# Altium integrated library Linear Technology Power Management Power Control.IntLib: 661 symbols (part 16 of 43)
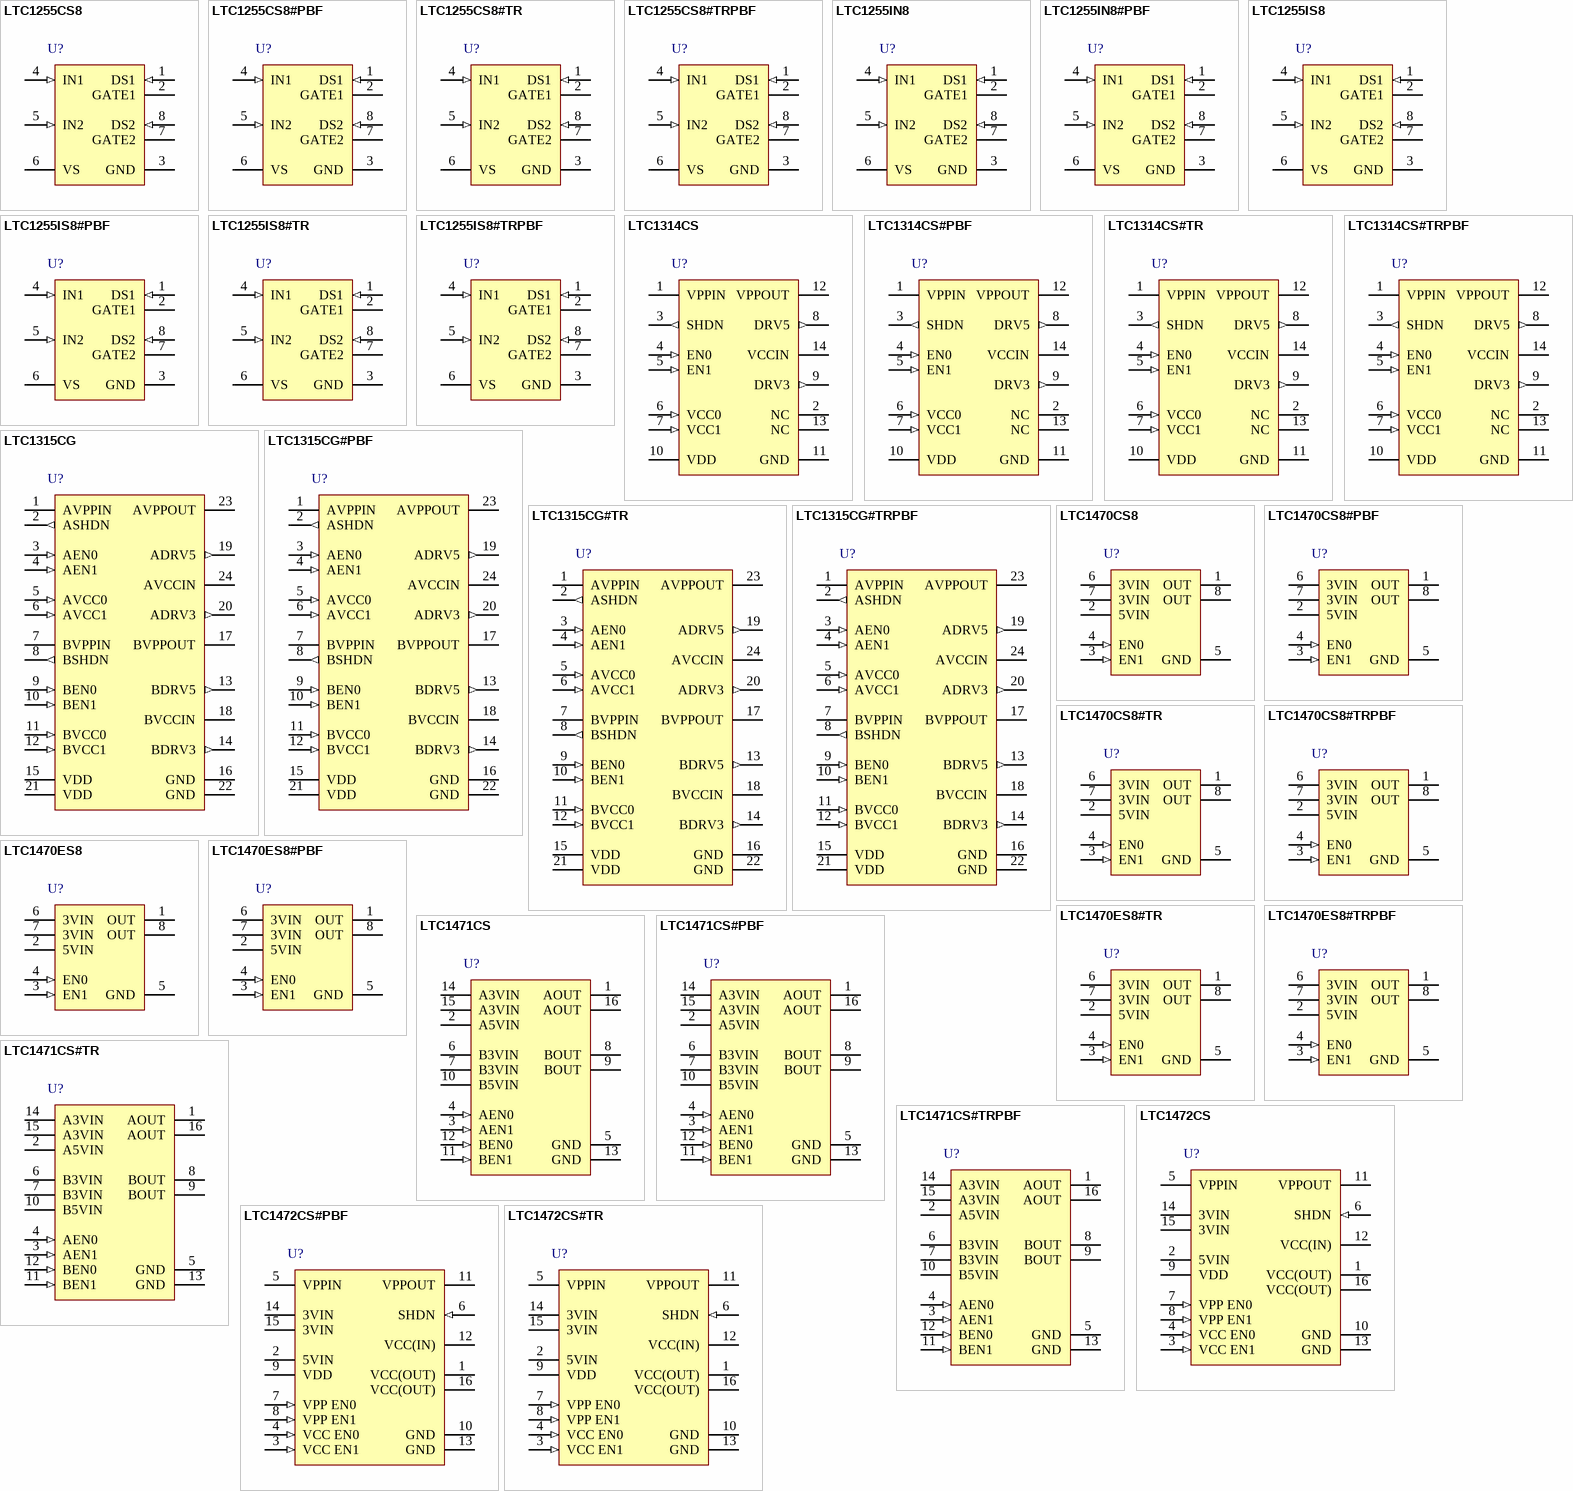
[diagram p34: symbols LTC1255CS8 to LTC1472CS#TR]

## LTC1315CG#TR
designator U?
Internal Drivers for Vcc MOSFETs, 4.5 to 5.5 V Vin, 24-pin SOP (G-24), 0 to 70 degC, Tape and Reel; Manufacturer: Linear Technology; PartNumber: LTC1315CG#TR; PackageVersion: Jun-10; PackageReference: G-24; PackageDescription: 24-Pin Plastic SSOP, Body 8.2 x 5.3 mm, Pitch 0.65 mm; Supplier 1: Digi-Key; Supplier Part Number 1: LTC1315CG#TR-ND; Packing: Tape and Reel; RoHS: FALSE; Mounting Technology: Surface Mount; ComponentLink1Description: Manufacturer URL; ComponentLink1URL: http://www.linear.com/; ComponentLink2Description: Datasheet; ComponentLink2URL: http://cds.linear.com/docs/en/datasheet/lt1314.pdf; ComponentLink3Description: Package Specification; ComponentLink3URL: http://cds.linear.com/docs/en/packaging/SSOP_24_05-08-1640.pdf
footprint LT-G-24_N (SOP, 24-Leads, Body 8.5x5.6mm, Pitch 0.65mm, IPC Medium Density)
footprint LT-G-24_L (SOP, 24-Leads, Body 8.5x5.6mm, Pitch 0.65mm, IPC High Density)
footprint LT-G-24_M (SOP, 24-Leads, Body 8.5x5.6mm, Pitch 0.65mm, IPC Low Density)
pins: 1 AVPPIN (power) "12 V Power Input.", 2 ASHDN (out) "Shutdown Output. When the output is high, the external 12 V regulator can be shut down to conserve power consumption.", 3 AEN0 (in) "Logic input that control the voltage output on VPP OUT . The input thresholds are compatible with TTL / CMOS level. Refer to the Truth Table.", 4 AEN1 (in) "Logic input that control the voltage output on VPP OUT . The input thresholds are compatible with TTL / CMOS level. Refer to the Truth Table.", 5 AVCC0 (in) "Logic input that control the state of the MOSFET gate driver DRV3. ESD protection device limits input excursions to 0.6 V below ground.", 6 AVCC1 (in) "Logic input that control the state of the MOSFET gate driver DRV5. ESD protection device limits input excursions to 0.6 V below ground.", 7 BVPPIN (power) "12 V Power Input.", 8 BSHDN (out) "Shutdown Output. When the output is high, the external 12 V regulator can be shut down to conserve power consumption.", 9 BEN0 (in) "Logic input that control the voltage output on VPP OUT . The input thresholds are compatible with TTL / CMOS level. Refer to the Truth Table.", 10 BEN1 (in) "Logic input that control the voltage output on VPP OUT . The input thresholds are compatible with TTL / CMOS level. Refer to the Truth Table.", 11 BVCC0 (in) "Logic input that control the state of the MOSFET gate driver DRV3. ESD protection device limits input excursions to 0.6 V below ground.", 12 BVCC1 (in) "Logic input that control the state of the MOSFET gate driver DRV5. ESD protection device limits input excursions to 0.6 V below ground.", 13 BDRV5 (out) "Gate driver output that control the external MOSFETs that switch the VCC pin of card slot to Hi-Z, 3.3 V, or 5 V.", 14 BDRV3 (out) "Gate driver output that control the external MOSFETs that switch the VCC pin of card slot to Hi-Z, 3.3 V, or 5 V.", 15 VDD (power) "Positive Supply, 4.5 V <= VDD <= 5.5 V. This pin supply the power to the control logic and the charge pumps and must be continuously powered.", 16 GND (power) "Ground Connection.", 17 BVPPOUT (power) "Switched output that provide 0 V, 3.3 V, 5 V, 12 V, or Hi-Z to the VPP pin of the card slot. Refer to the Truth Table.", 18 BVCCIN (power) "5 V or 3.3 V Power Input.", 19 ADRV5 (out) "Gate driver output that control the external MOSFETs that switch the VCC pin of card slot to Hi-Z, 3.3 V, or 5 V.", 20 ADRV3 (out) "Gate driver output that control the external MOSFETs that switch the VCC pin of card slot to Hi-Z, 3.3 V, or 5 V.", 21 VDD (power) "Positive Supply, 4.5 V <= V DD <= 5.5 V. These pins supply the power to the control logic and the charge pumps and must be continuously powered.", 22 GND (power) "Ground Connection.", 23 AVPPOUT (power) "Switched output that provide 0 V, 3.3 V, 5 V, 12 V, or Hi-Z to the VPP pin of the card slot. Refer to the Truth Table.", 24 AVCCIN (power) "5 V or 3.3 V Power Input."

## LTC1315CG#TRPBF
designator U?
Internal Drivers for Vcc MOSFETs, 4.5 to 5.5 V Vin, 24-pin SOP (G-24), 0 to 70 degC, Pb-Free, Tape and Reel; Manufacturer: Linear Technology; PartNumber: LTC1315CG#TRPBF; PackageVersion: Jun-10; PackageReference: G-24; PackageDescription: 24-Pin Plastic SSOP, Body 8.2 x 5.3 mm, Pitch 0.65 mm; Supplier 1: Digi-Key; Supplier Part Number 1: LTC1315CG#TRPBF-ND; Packing: Tape and Reel; RoHS: TRUE; Mounting Technology: Surface Mount; ComponentLink1Description: Manufacturer URL; ComponentLink1URL: http://www.linear.com/; ComponentLink2Description: Datasheet; ComponentLink2URL: http://cds.linear.com/docs/en/datasheet/lt1314.pdf; ComponentLink3Description: Package Specification; ComponentLink3URL: http://cds.linear.com/docs/en/packaging/SSOP_24_05-08-1640.pdf
footprint LT-G-24_N (SOP, 24-Leads, Body 8.5x5.6mm, Pitch 0.65mm, IPC Medium Density)
footprint LT-G-24_L (SOP, 24-Leads, Body 8.5x5.6mm, Pitch 0.65mm, IPC High Density)
footprint LT-G-24_M (SOP, 24-Leads, Body 8.5x5.6mm, Pitch 0.65mm, IPC Low Density)
pins: 1 AVPPIN (power) "12 V Power Input.", 2 ASHDN (out) "Shutdown Output. When the output is high, the external 12 V regulator can be shut down to conserve power consumption.", 3 AEN0 (in) "Logic input that control the voltage output on VPP OUT . The input thresholds are compatible with TTL / CMOS level. Refer to the Truth Table.", 4 AEN1 (in) "Logic input that control the voltage output on VPP OUT . The input thresholds are compatible with TTL / CMOS level. Refer to the Truth Table.", 5 AVCC0 (in) "Logic input that control the state of the MOSFET gate driver DRV3. ESD protection device limits input excursions to 0.6 V below ground.", 6 AVCC1 (in) "Logic input that control the state of the MOSFET gate driver DRV5. ESD protection device limits input excursions to 0.6 V below ground.", 7 BVPPIN (power) "12 V Power Input.", 8 BSHDN (out) "Shutdown Output. When the output is high, the external 12 V regulator can be shut down to conserve power consumption.", 9 BEN0 (in) "Logic input that control the voltage output on VPP OUT . The input thresholds are compatible with TTL / CMOS level. Refer to the Truth Table.", 10 BEN1 (in) "Logic input that control the voltage output on VPP OUT . The input thresholds are compatible with TTL / CMOS level. Refer to the Truth Table.", 11 BVCC0 (in) "Logic input that control the state of the MOSFET gate driver DRV3. ESD protection device limits input excursions to 0.6 V below ground.", 12 BVCC1 (in) "Logic input that control the state of the MOSFET gate driver DRV5. ESD protection device limits input excursions to 0.6 V below ground.", 13 BDRV5 (out) "Gate driver output that control the external MOSFETs that switch the VCC pin of card slot to Hi-Z, 3.3 V, or 5 V.", 14 BDRV3 (out) "Gate driver output that control the external MOSFETs that switch the VCC pin of card slot to Hi-Z, 3.3 V, or 5 V.", 15 VDD (power) "Positive Supply, 4.5 V <= VDD <= 5.5 V. This pin supply the power to the control logic and the charge pumps and must be continuously powered.", 16 GND (power) "Ground Connection.", 17 BVPPOUT (power) "Switched output that provide 0 V, 3.3 V, 5 V, 12 V, or Hi-Z to the VPP pin of the card slot. Refer to the Truth Table.", 18 BVCCIN (power) "5 V or 3.3 V Power Input.", 19 ADRV5 (out) "Gate driver output that control the external MOSFETs that switch the VCC pin of card slot to Hi-Z, 3.3 V, or 5 V.", 20 ADRV3 (out) "Gate driver output that control the external MOSFETs that switch the VCC pin of card slot to Hi-Z, 3.3 V, or 5 V.", 21 VDD (power) "Positive Supply, 4.5 V <= V DD <= 5.5 V. These pins supply the power to the control logic and the charge pumps and must be continuously powered.", 22 GND (power) "Ground Connection.", 23 AVPPOUT (power) "Switched output that provide 0 V, 3.3 V, 5 V, 12 V, or Hi-Z to the VPP pin of the card slot. Refer to the Truth Table.", 24 AVCCIN (power) "5 V or 3.3 V Power Input."

## LTC1470CS8
designator U?
Fully Integrated VCC Switch with SafeSlot Protection, 2.7 to 5.25 V Vin, 8-pin SOIC (S8-8), 0 to 70 degC; Manufacturer: Linear Technology; PartNumber: LTC1470CS8; DatasheetVersion: Rev. A; PackageVersion: Rev. G, 03/2012; PackageReference: S8-8; PackageDescription: 8-Pin Plastic Small Outline (Narrow .150 Inch), Body 4.9 x 3.9 mm, Pitch 1.27 mm; Supplier 1: Digi-Key; Supplier Part Number 1: LTC1470CS8-ND; RoHS: FALSE; Mounting Technology: Surface Mount; ComponentLink1Description: Manufacturer URL; ComponentLink1URL: http://www.linear.com/; ComponentLink2Description: Datasheet; ComponentLink2URL: http://cds.linear.com/docs/en/datasheet/14701fa.pdf; ComponentLink3Description: Package Specification; ComponentLink3URL: http://cds.linear.com/docs/en/packaging/05081610_G_SO8.pdf
footprint LT-S8-8_N (SOIC, 8-Leads, Body 5x4mm, Pitch 1.27mm, IPC Medium Density)
footprint LT-S8-8_L (SOIC, 8-Leads, Body 5x4mm, Pitch 1.27mm, IPC High Density)
footprint LT-S8-8_M (SOIC, 8-Leads, Body 5x4mm, Pitch 1.27mm, IPC Low Density)
pins: 1 OUT (power) "Output Pins. The outputs of the LTC1470 are switched between three operating states: OFF, 3.3V and 5V. These pins are protected against accidental short circuits to ground by SafeSlot current limit circuitry which protects (See Datasheet)", 2 5VIN (power) "5V Input Supply Pin. The 5VIN supply pin serves two purposes. The first purpose is as the power supply input for the 5V NMOS switch. The second purpose is to provide power for the input, gate drive, and protection circuitry (See Datasheet)", 3 EN1 (in) "Enable Inputs. The two VCC Enable inputs are designed to interface directly with industry standard PCMCIA controllers and are high impedance CMOS gates with ESD protection diodes to ground, and should not be forced above (See Datasheet)", 4 EN0 (in) "Enable Inputs. The two VCC Enable inputs are designed to interface directly with industry standard PCMCIA controllers and are high impedance CMOS gates with ESD protection diodes to ground, and should not be forced above (See Datasheet)", 5 GND (power) "Ground Connection.", 6 3VIN (power) "3V Input Supply Pins. The 3VIN supply pins serve as the power supply input for the 3.3V switches. These pins do not provide any power to the internal control circuitry and therefore do not consume any power when unloaded or (See Datasheet)", 7 3VIN (power) "3V Input Supply Pins. The 3VIN supply pins serve as the power supply input for the 3.3V switches. These pins do not provide any power to the internal control circuitry and therefore do not consume any power when unloaded or (See Datasheet)", 8 OUT (power) "Output Pins. The outputs of the LTC1470 are switched between three operating states: OFF, 3.3V and 5V. These pins are protected against accidental short circuits to ground by SafeSlot current limit circuitry which protects (See Datasheet)"

## LTC1470CS8#PBF
designator U?
Fully Integrated VCC Switch with SafeSlot Protection, 2.7 to 5.25 V Vin, 8-pin SOIC (S8-8), 0 to 70 degC, Pb-Free; Manufacturer: Linear Technology; PartNumber: LTC1470CS8#PBF; DatasheetVersion: Rev. A; PackageVersion: Rev. G, 03/2012; PackageReference: S8-8; PackageDescription: 8-Pin Plastic Small Outline (Narrow .150 Inch), Body 4.9 x 3.9 mm, Pitch 1.27 mm; Supplier 1: Digi-Key; Supplier Part Number 1: LTC1470CS8#PBF-ND; Supplier 2: Farnell; Supplier Part Number 2: 1273513; Supplier 3: Newark; Supplier Part Number 3: 56M1445; RoHS: TRUE; Mounting Technology: Surface Mount; ComponentLink1Description: Manufacturer URL; ComponentLink1URL: http://www.linear.com/; ComponentLink2Description: Datasheet; ComponentLink2URL: http://cds.linear.com/docs/en/datasheet/14701fa.pdf; ComponentLink3Description: Package Specification; ComponentLink3URL: http://cds.linear.com/docs/en/packaging/05081610_G_SO8.pdf
footprint LT-S8-8_N (SOIC, 8-Leads, Body 5x4mm, Pitch 1.27mm, IPC Medium Density)
footprint LT-S8-8_L (SOIC, 8-Leads, Body 5x4mm, Pitch 1.27mm, IPC High Density)
footprint LT-S8-8_M (SOIC, 8-Leads, Body 5x4mm, Pitch 1.27mm, IPC Low Density)
pins: 1 OUT (power) "Output Pins. The outputs of the LTC1470 are switched between three operating states: OFF, 3.3V and 5V. These pins are protected against accidental short circuits to ground by SafeSlot current limit circuitry which protects (See Datasheet)", 2 5VIN (power) "5V Input Supply Pin. The 5VIN supply pin serves two purposes. The first purpose is as the power supply input for the 5V NMOS switch. The second purpose is to provide power for the input, gate drive, and protection circuitry (See Datasheet)", 3 EN1 (in) "Enable Inputs. The two VCC Enable inputs are designed to interface directly with industry standard PCMCIA controllers and are high impedance CMOS gates with ESD protection diodes to ground, and should not be forced above (See Datasheet)", 4 EN0 (in) "Enable Inputs. The two VCC Enable inputs are designed to interface directly with industry standard PCMCIA controllers and are high impedance CMOS gates with ESD protection diodes to ground, and should not be forced above (See Datasheet)", 5 GND (power) "Ground Connection.", 6 3VIN (power) "3V Input Supply Pins. The 3VIN supply pins serve as the power supply input for the 3.3V switches. These pins do not provide any power to the internal control circuitry and therefore do not consume any power when unloaded or (See Datasheet)", 7 3VIN (power) "3V Input Supply Pins. The 3VIN supply pins serve as the power supply input for the 3.3V switches. These pins do not provide any power to the internal control circuitry and therefore do not consume any power when unloaded or (See Datasheet)", 8 OUT (power) "Output Pins. The outputs of the LTC1470 are switched between three operating states: OFF, 3.3V and 5V. These pins are protected against accidental short circuits to ground by SafeSlot current limit circuitry which protects (See Datasheet)"

## LTC1470CS8#TR
designator U?
Fully Integrated VCC Switch with SafeSlot Protection, 2.7 to 5.25 V Vin, 8-pin SOIC (S8-8), 0 to 70 degC, Tape and Reel; Manufacturer: Linear Technology; PartNumber: LTC1470CS8#TR; DatasheetVersion: Rev. A; PackageVersion: Rev. G, 03/2012; PackageReference: S8-8; PackageDescription: 8-Pin Plastic Small Outline (Narrow .150 Inch), Body 4.9 x 3.9 mm, Pitch 1.27 mm; Supplier 1: Digi-Key; Supplier Part Number 1: LTC1470CS8#TR-ND; Packing: Tape and Reel; RoHS: FALSE; Mounting Technology: Surface Mount; ComponentLink1Description: Manufacturer URL; ComponentLink1URL: http://www.linear.com/; ComponentLink2Description: Datasheet; ComponentLink2URL: http://cds.linear.com/docs/en/datasheet/14701fa.pdf; ComponentLink3Description: Package Specification; ComponentLink3URL: http://cds.linear.com/docs/en/packaging/05081610_G_SO8.pdf
footprint LT-S8-8_N (SOIC, 8-Leads, Body 5x4mm, Pitch 1.27mm, IPC Medium Density)
footprint LT-S8-8_L (SOIC, 8-Leads, Body 5x4mm, Pitch 1.27mm, IPC High Density)
footprint LT-S8-8_M (SOIC, 8-Leads, Body 5x4mm, Pitch 1.27mm, IPC Low Density)
pins: 1 OUT (power) "Output Pins. The outputs of the LTC1470 are switched between three operating states: OFF, 3.3V and 5V. These pins are protected against accidental short circuits to ground by SafeSlot current limit circuitry which protects (See Datasheet)", 2 5VIN (power) "5V Input Supply Pin. The 5VIN supply pin serves two purposes. The first purpose is as the power supply input for the 5V NMOS switch. The second purpose is to provide power for the input, gate drive, and protection circuitry (See Datasheet)", 3 EN1 (in) "Enable Inputs. The two VCC Enable inputs are designed to interface directly with industry standard PCMCIA controllers and are high impedance CMOS gates with ESD protection diodes to ground, and should not be forced above (See Datasheet)", 4 EN0 (in) "Enable Inputs. The two VCC Enable inputs are designed to interface directly with industry standard PCMCIA controllers and are high impedance CMOS gates with ESD protection diodes to ground, and should not be forced above (See Datasheet)", 5 GND (power) "Ground Connection.", 6 3VIN (power) "3V Input Supply Pins. The 3VIN supply pins serve as the power supply input for the 3.3V switches. These pins do not provide any power to the internal control circuitry and therefore do not consume any power when unloaded or (See Datasheet)", 7 3VIN (power) "3V Input Supply Pins. The 3VIN supply pins serve as the power supply input for the 3.3V switches. These pins do not provide any power to the internal control circuitry and therefore do not consume any power when unloaded or (See Datasheet)", 8 OUT (power) "Output Pins. The outputs of the LTC1470 are switched between three operating states: OFF, 3.3V and 5V. These pins are protected against accidental short circuits to ground by SafeSlot current limit circuitry which protects (See Datasheet)"

## LTC1470CS8#TRPBF
designator U?
Fully Integrated VCC Switch with SafeSlot Protection, 2.7 to 5.25 V Vin, 8-pin SOIC (S8-8), 0 to 70 degC, Pb-Free, Tape and Reel; Manufacturer: Linear Technology; PartNumber: LTC1470CS8#TRPBF; DatasheetVersion: Rev. A; PackageVersion: Rev. G, 03/2012; PackageReference: S8-8; PackageDescription: 8-Pin Plastic Small Outline (Narrow .150 Inch), Body 4.9 x 3.9 mm, Pitch 1.27 mm; Supplier 1: Digi-Key; Supplier Part Number 1: LTC1470CS8#TRPBF-ND; Packing: Tape and Reel; RoHS: TRUE; Mounting Technology: Surface Mount; ComponentLink1Description: Manufacturer URL; ComponentLink1URL: http://www.linear.com/; ComponentLink2Description: Datasheet; ComponentLink2URL: http://cds.linear.com/docs/en/datasheet/14701fa.pdf; ComponentLink3Description: Package Specification; ComponentLink3URL: http://cds.linear.com/docs/en/packaging/05081610_G_SO8.pdf
footprint LT-S8-8_N (SOIC, 8-Leads, Body 5x4mm, Pitch 1.27mm, IPC Medium Density)
footprint LT-S8-8_L (SOIC, 8-Leads, Body 5x4mm, Pitch 1.27mm, IPC High Density)
footprint LT-S8-8_M (SOIC, 8-Leads, Body 5x4mm, Pitch 1.27mm, IPC Low Density)
pins: 1 OUT (power) "Output Pins. The outputs of the LTC1470 are switched between three operating states: OFF, 3.3V and 5V. These pins are protected against accidental short circuits to ground by SafeSlot current limit circuitry which protects (See Datasheet)", 2 5VIN (power) "5V Input Supply Pin. The 5VIN supply pin serves two purposes. The first purpose is as the power supply input for the 5V NMOS switch. The second purpose is to provide power for the input, gate drive, and protection circuitry (See Datasheet)", 3 EN1 (in) "Enable Inputs. The two VCC Enable inputs are designed to interface directly with industry standard PCMCIA controllers and are high impedance CMOS gates with ESD protection diodes to ground, and should not be forced above (See Datasheet)", 4 EN0 (in) "Enable Inputs. The two VCC Enable inputs are designed to interface directly with industry standard PCMCIA controllers and are high impedance CMOS gates with ESD protection diodes to ground, and should not be forced above (See Datasheet)", 5 GND (power) "Ground Connection.", 6 3VIN (power) "3V Input Supply Pins. The 3VIN supply pins serve as the power supply input for the 3.3V switches. These pins do not provide any power to the internal control circuitry and therefore do not consume any power when unloaded or (See Datasheet)", 7 3VIN (power) "3V Input Supply Pins. The 3VIN supply pins serve as the power supply input for the 3.3V switches. These pins do not provide any power to the internal control circuitry and therefore do not consume any power when unloaded or (See Datasheet)", 8 OUT (power) "Output Pins. The outputs of the LTC1470 are switched between three operating states: OFF, 3.3V and 5V. These pins are protected against accidental short circuits to ground by SafeSlot current limit circuitry which protects (See Datasheet)"

## LTC1470ES8
designator U?
Fully Integrated VCC Switch with SafeSlot Protection, 2.7 to 5.25 V Vin, 8-pin SOIC (S8-8), -40 to 85 degC; Manufacturer: Linear Technology; PartNumber: LTC1470ES8; DatasheetVersion: Rev. A; PackageVersion: Rev. G, 03/2012; PackageReference: S8-8; PackageDescription: 8-Pin Plastic Small Outline (Narrow .150 Inch), Body 4.9 x 3.9 mm, Pitch 1.27 mm; Supplier 1: Digi-Key; Supplier Part Number 1: LTC1470ES8-ND; RoHS: FALSE; Mounting Technology: Surface Mount; ComponentLink1Description: Manufacturer URL; ComponentLink1URL: http://www.linear.com/; ComponentLink2Description: Datasheet; ComponentLink2URL: http://cds.linear.com/docs/en/datasheet/14701fa.pdf; ComponentLink3Description: Package Specification; ComponentLink3URL: http://cds.linear.com/docs/en/packaging/05081610_G_SO8.pdf
footprint LT-S8-8_N (SOIC, 8-Leads, Body 5x4mm, Pitch 1.27mm, IPC Medium Density)
footprint LT-S8-8_L (SOIC, 8-Leads, Body 5x4mm, Pitch 1.27mm, IPC High Density)
footprint LT-S8-8_M (SOIC, 8-Leads, Body 5x4mm, Pitch 1.27mm, IPC Low Density)
pins: 1 OUT (power) "Output Pins. The outputs of the LTC1470 are switched between three operating states: OFF, 3.3V and 5V. These pins are protected against accidental short circuits to ground by SafeSlot current limit circuitry which protects (See Datasheet)", 2 5VIN (power) "5V Input Supply Pin. The 5VIN supply pin serves two purposes. The first purpose is as the power supply input for the 5V NMOS switch. The second purpose is to provide power for the input, gate drive, and protection circuitry (See Datasheet)", 3 EN1 (in) "Enable Inputs. The two VCC Enable inputs are designed to interface directly with industry standard PCMCIA controllers and are high impedance CMOS gates with ESD protection diodes to ground, and should not be forced above (See Datasheet)", 4 EN0 (in) "Enable Inputs. The two VCC Enable inputs are designed to interface directly with industry standard PCMCIA controllers and are high impedance CMOS gates with ESD protection diodes to ground, and should not be forced above (See Datasheet)", 5 GND (power) "Ground Connection.", 6 3VIN (power) "3V Input Supply Pins. The 3VIN supply pins serve as the power supply input for the 3.3V switches. These pins do not provide any power to the internal control circuitry and therefore do not consume any power when unloaded or (See Datasheet)", 7 3VIN (power) "3V Input Supply Pins. The 3VIN supply pins serve as the power supply input for the 3.3V switches. These pins do not provide any power to the internal control circuitry and therefore do not consume any power when unloaded or (See Datasheet)", 8 OUT (power) "Output Pins. The outputs of the LTC1470 are switched between three operating states: OFF, 3.3V and 5V. These pins are protected against accidental short circuits to ground by SafeSlot current limit circuitry which protects (See Datasheet)"

## LTC1470ES8#PBF
designator U?
Fully Integrated VCC Switch with SafeSlot Protection, 2.7 to 5.25 V Vin, 8-pin SOIC (S8-8), -40 to 85 degC, Pb-Free; Manufacturer: Linear Technology; PartNumber: LTC1470ES8#PBF; DatasheetVersion: Rev. A; PackageVersion: Rev. G, 03/2012; PackageReference: S8-8; PackageDescription: 8-Pin Plastic Small Outline (Narrow .150 Inch), Body 4.9 x 3.9 mm, Pitch 1.27 mm; Supplier 1: Digi-Key; Supplier Part Number 1: LTC1470ES8#PBF-ND; RoHS: TRUE; Mounting Technology: Surface Mount; ComponentLink1Description: Manufacturer URL; ComponentLink1URL: http://www.linear.com/; ComponentLink2Description: Datasheet; ComponentLink2URL: http://cds.linear.com/docs/en/datasheet/14701fa.pdf; ComponentLink3Description: Package Specification; ComponentLink3URL: http://cds.linear.com/docs/en/packaging/05081610_G_SO8.pdf
footprint LT-S8-8_N (SOIC, 8-Leads, Body 5x4mm, Pitch 1.27mm, IPC Medium Density)
footprint LT-S8-8_L (SOIC, 8-Leads, Body 5x4mm, Pitch 1.27mm, IPC High Density)
footprint LT-S8-8_M (SOIC, 8-Leads, Body 5x4mm, Pitch 1.27mm, IPC Low Density)
pins: 1 OUT (power) "Output Pins. The outputs of the LTC1470 are switched between three operating states: OFF, 3.3V and 5V. These pins are protected against accidental short circuits to ground by SafeSlot current limit circuitry which protects (See Datasheet)", 2 5VIN (power) "5V Input Supply Pin. The 5VIN supply pin serves two purposes. The first purpose is as the power supply input for the 5V NMOS switch. The second purpose is to provide power for the input, gate drive, and protection circuitry (See Datasheet)", 3 EN1 (in) "Enable Inputs. The two VCC Enable inputs are designed to interface directly with industry standard PCMCIA controllers and are high impedance CMOS gates with ESD protection diodes to ground, and should not be forced above (See Datasheet)", 4 EN0 (in) "Enable Inputs. The two VCC Enable inputs are designed to interface directly with industry standard PCMCIA controllers and are high impedance CMOS gates with ESD protection diodes to ground, and should not be forced above (See Datasheet)", 5 GND (power) "Ground Connection.", 6 3VIN (power) "3V Input Supply Pins. The 3VIN supply pins serve as the power supply input for the 3.3V switches. These pins do not provide any power to the internal control circuitry and therefore do not consume any power when unloaded or (See Datasheet)", 7 3VIN (power) "3V Input Supply Pins. The 3VIN supply pins serve as the power supply input for the 3.3V switches. These pins do not provide any power to the internal control circuitry and therefore do not consume any power when unloaded or (See Datasheet)", 8 OUT (power) "Output Pins. The outputs of the LTC1470 are switched between three operating states: OFF, 3.3V and 5V. These pins are protected against accidental short circuits to ground by SafeSlot current limit circuitry which protects (See Datasheet)"

## LTC1470ES8#TR
designator U?
Fully Integrated VCC Switch with SafeSlot Protection, 2.7 to 5.25 V Vin, 8-pin SOIC (S8-8), -40 to 85 degC, Tape and Reel; Manufacturer: Linear Technology; PartNumber: LTC1470ES8#TR; DatasheetVersion: Rev. A; PackageVersion: Rev. G, 03/2012; PackageReference: S8-8; PackageDescription: 8-Pin Plastic Small Outline (Narrow .150 Inch), Body 4.9 x 3.9 mm, Pitch 1.27 mm; Supplier 1: Digi-Key; Supplier Part Number 1: LTC1470ES8#TR-ND; Packing: Tape and Reel; RoHS: FALSE; Mounting Technology: Surface Mount; ComponentLink1Description: Manufacturer URL; ComponentLink1URL: http://www.linear.com/; ComponentLink2Description: Datasheet; ComponentLink2URL: http://cds.linear.com/docs/en/datasheet/14701fa.pdf; ComponentLink3Description: Package Specification; ComponentLink3URL: http://cds.linear.com/docs/en/packaging/05081610_G_SO8.pdf
footprint LT-S8-8_N (SOIC, 8-Leads, Body 5x4mm, Pitch 1.27mm, IPC Medium Density)
footprint LT-S8-8_L (SOIC, 8-Leads, Body 5x4mm, Pitch 1.27mm, IPC High Density)
footprint LT-S8-8_M (SOIC, 8-Leads, Body 5x4mm, Pitch 1.27mm, IPC Low Density)
pins: 1 OUT (power) "Output Pins. The outputs of the LTC1470 are switched between three operating states: OFF, 3.3V and 5V. These pins are protected against accidental short circuits to ground by SafeSlot current limit circuitry which protects (See Datasheet)", 2 5VIN (power) "5V Input Supply Pin. The 5VIN supply pin serves two purposes. The first purpose is as the power supply input for the 5V NMOS switch. The second purpose is to provide power for the input, gate drive, and protection circuitry (See Datasheet)", 3 EN1 (in) "Enable Inputs. The two VCC Enable inputs are designed to interface directly with industry standard PCMCIA controllers and are high impedance CMOS gates with ESD protection diodes to ground, and should not be forced above (See Datasheet)", 4 EN0 (in) "Enable Inputs. The two VCC Enable inputs are designed to interface directly with industry standard PCMCIA controllers and are high impedance CMOS gates with ESD protection diodes to ground, and should not be forced above (See Datasheet)", 5 GND (power) "Ground Connection.", 6 3VIN (power) "3V Input Supply Pins. The 3VIN supply pins serve as the power supply input for the 3.3V switches. These pins do not provide any power to the internal control circuitry and therefore do not consume any power when unloaded or (See Datasheet)", 7 3VIN (power) "3V Input Supply Pins. The 3VIN supply pins serve as the power supply input for the 3.3V switches. These pins do not provide any power to the internal control circuitry and therefore do not consume any power when unloaded or (See Datasheet)", 8 OUT (power) "Output Pins. The outputs of the LTC1470 are switched between three operating states: OFF, 3.3V and 5V. These pins are protected against accidental short circuits to ground by SafeSlot current limit circuitry which protects (See Datasheet)"

## LTC1470ES8#TRPBF
designator U?
Fully Integrated VCC Switch with SafeSlot Protection, 2.7 to 5.25 V Vin, 8-pin SOIC (S8-8), -40 to 85 degC, Pb-Free, Tape and Reel; Manufacturer: Linear Technology; PartNumber: LTC1470ES8#TRPBF; DatasheetVersion: Rev. A; PackageVersion: Rev. G, 03/2012; PackageReference: S8-8; PackageDescription: 8-Pin Plastic Small Outline (Narrow .150 Inch), Body 4.9 x 3.9 mm, Pitch 1.27 mm; Supplier 1: Digi-Key; Supplier Part Number 1: LTC1470ES8#TRPBF-ND; Supplier 2: Newark; Supplier Part Number 2: 56M1451; Packing: Tape and Reel; RoHS: TRUE; Mounting Technology: Surface Mount; ComponentLink1Description: Manufacturer URL; ComponentLink1URL: http://www.linear.com/; ComponentLink2Description: Datasheet; ComponentLink2URL: http://cds.linear.com/docs/en/datasheet/14701fa.pdf; ComponentLink3Description: Package Specification; ComponentLink3URL: http://cds.linear.com/docs/en/packaging/05081610_G_SO8.pdf
footprint LT-S8-8_N (SOIC, 8-Leads, Body 5x4mm, Pitch 1.27mm, IPC Medium Density)
footprint LT-S8-8_L (SOIC, 8-Leads, Body 5x4mm, Pitch 1.27mm, IPC High Density)
footprint LT-S8-8_M (SOIC, 8-Leads, Body 5x4mm, Pitch 1.27mm, IPC Low Density)
pins: 1 OUT (power) "Output Pins. The outputs of the LTC1470 are switched between three operating states: OFF, 3.3V and 5V. These pins are protected against accidental short circuits to ground by SafeSlot current limit circuitry which protects (See Datasheet)", 2 5VIN (power) "5V Input Supply Pin. The 5VIN supply pin serves two purposes. The first purpose is as the power supply input for the 5V NMOS switch. The second purpose is to provide power for the input, gate drive, and protection circuitry (See Datasheet)", 3 EN1 (in) "Enable Inputs. The two VCC Enable inputs are designed to interface directly with industry standard PCMCIA controllers and are high impedance CMOS gates with ESD protection diodes to ground, and should not be forced above (See Datasheet)", 4 EN0 (in) "Enable Inputs. The two VCC Enable inputs are designed to interface directly with industry standard PCMCIA controllers and are high impedance CMOS gates with ESD protection diodes to ground, and should not be forced above (See Datasheet)", 5 GND (power) "Ground Connection.", 6 3VIN (power) "3V Input Supply Pins. The 3VIN supply pins serve as the power supply input for the 3.3V switches. These pins do not provide any power to the internal control circuitry and therefore do not consume any power when unloaded or (See Datasheet)", 7 3VIN (power) "3V Input Supply Pins. The 3VIN supply pins serve as the power supply input for the 3.3V switches. These pins do not provide any power to the internal control circuitry and therefore do not consume any power when unloaded or (See Datasheet)", 8 OUT (power) "Output Pins. The outputs of the LTC1470 are switched between three operating states: OFF, 3.3V and 5V. These pins are protected against accidental short circuits to ground by SafeSlot current limit circuitry which protects (See Datasheet)"

## LTC1471CS
designator U?
Fully Integrated VCC Switch with SafeSlot Protection, 2.7 to 5.25 V Vin, 16-pin SOP (S-16), 0 to 70 degC; Manufacturer: Linear Technology; PartNumber: LTC1471CS; DatasheetVersion: Rev. A; PackageVersion: Rev. G, 05/2012; PackageReference: S-16; PackageDescription: 16-Pin Plastic Small Outline, Body 9.9 x 3.9 mm, Pitch 1.27 mm; Supplier 1: Digi-Key; Supplier Part Number 1: LTC1471CS-ND; RoHS: FALSE; Mounting Technology: Surface Mount; ComponentLink1Description: Manufacturer URL; ComponentLink1URL: http://www.linear.com/; ComponentLink2Description: Datasheet; ComponentLink2URL: http://cds.linear.com/docs/en/datasheet/14701fa.pdf; ComponentLink3Description: Package Specification; ComponentLink3URL: http://cds.linear.com/docs/en/packaging/S16%2005-08-1610%20Rev%20G.pdf
footprint LT-S-16_N (SOP, 16-Leads, Body 10x4mm, Pitch 1.27mm, IPC Medium Density)
footprint LT-S-16_L (SOP, 16-Leads, Body 10x4mm, Pitch 1.27mm, IPC High Density)
footprint LT-S-16_M (SOP, 16-Leads, Body 10x4mm, Pitch 1.27mm, IPC Low Density)
pins: 1 AOUT (power) "Output Pins. The outputs of the LTC1471 are switched between three operating states: OFF, 3.3V and 5V. These pins are protected against accidental short circuits to ground by SafeSlot current limit circuitry which protects (See Datasheet)", 2 A5VIN (power) "5V Input Supply Pins. The 5VIN supply pins serve two purposes. The first purpose is as the power supply input for the 5V NMOS switches. The second purpose is to provide power for the input, gate drive, and protection (See Datasheet)", 3 AEN1 (in) "Enable Inputs. The enable inputs are designed to interface directly with industry standard PCMCIA controllers and are high impedance CMOS gates with ESD protection diodes to ground, and should not be forced above 5VIN or (See Datasheet)", 4 AEN0 (in) "Enable Inputs. The enable inputs are designed to interface directly with industry standard PCMCIA controllers and are high impedance CMOS gates with ESD protection diodes to ground, and should not be forced above 5VIN or (See Datasheet)", 5 GND (power) "Ground Connections.", 6 B3VIN (power) "3V Input Supply Pins. The 3VIN supply pins serve as the power supply input for the 3.3V switches. These pins do not not provide any power to the internal control circuitry, and therefore, do not consume any power when (See Datasheet)", 7 B3VIN (power) "3V Input Supply Pins. The 3VIN supply pins serve as the power supply input for the 3.3V switches. These pins do not not provide any power to the internal control circuitry, and therefore, do not consume any power when (See Datasheet)", 8 BOUT (power) "Output Pins. The outputs of the LTC1471 are switched between three operating states: OFF, 3.3V and 5V. These pins are protected against accidental short circuits to ground by SafeSlot current limit circuitry which protects (See Datasheet)", 9 BOUT (power) "Output Pins. The outputs of the LTC1471 are switched between three operating states: OFF, 3.3V and 5V. These pins are protected against accidental short circuits to ground by SafeSlot current limit circuitry which protects (See Datasheet)", 10 B5VIN (power) "5V Input Supply Pins. The 5VIN supply pins serve two purposes. The first purpose is as the power supply input for the 5V NMOS switches. The second purpose is to provide power for the input, gate drive, and protection (See Datasheet)", 11 BEN1 (in) "Enable Inputs. The enable inputs are designed to interface directly with industry standard PCMCIA controllers and are high impedance CMOS gates with ESD protection diodes to ground, and should not be forced above 5VIN or (See Datasheet)", 12 BEN0 (in) "Enable Inputs. The enable inputs are designed to interface directly with industry standard PCMCIA controllers and are high impedance CMOS gates with ESD protection diodes to ground, and should not be forced above 5VIN or (See Datasheet)", 13 GND (power) "Ground Connections.", 14 A3VIN (power) "3V Input Supply Pins. The 3VIN supply pins serve as the power supply input for the 3.3V switches. These pins do not not provide any power to the internal control circuitry, and therefore, do not consume any power when (See Datasheet)", 15 A3VIN (power) "3V Input Supply Pins. The 3VIN supply pins serve as the power supply input for the 3.3V switches. These pins do not not provide any power to the internal control circuitry, and therefore, do not consume any power when (See Datasheet)", 16 AOUT (power) "Output Pins. The outputs of the LTC1471 are switched between three operating states: OFF, 3.3V and 5V. These pins are protected against accidental short circuits to ground by SafeSlot current limit circuitry which protects (See Datasheet)"

## LTC1471CS#PBF
designator U?
Fully Integrated VCC Switch with SafeSlot Protection, 2.7 to 5.25 V Vin, 16-pin SOP (S-16), 0 to 70 degC, Pb-Free; Manufacturer: Linear Technology; PartNumber: LTC1471CS#PBF; DatasheetVersion: Rev. A; PackageVersion: Rev. G, 05/2012; PackageReference: S-16; PackageDescription: 16-Pin Plastic Small Outline, Body 9.9 x 3.9 mm, Pitch 1.27 mm; Supplier 1: Digi-Key; Supplier Part Number 1: LTC1471CS#PBF-ND; RoHS: TRUE; Mounting Technology: Surface Mount; ComponentLink1Description: Manufacturer URL; ComponentLink1URL: http://www.linear.com/; ComponentLink2Description: Datasheet; ComponentLink2URL: http://cds.linear.com/docs/en/datasheet/14701fa.pdf; ComponentLink3Description: Package Specification; ComponentLink3URL: http://cds.linear.com/docs/en/packaging/S16%2005-08-1610%20Rev%20G.pdf
footprint LT-S-16_N (SOP, 16-Leads, Body 10x4mm, Pitch 1.27mm, IPC Medium Density)
footprint LT-S-16_L (SOP, 16-Leads, Body 10x4mm, Pitch 1.27mm, IPC High Density)
footprint LT-S-16_M (SOP, 16-Leads, Body 10x4mm, Pitch 1.27mm, IPC Low Density)
pins: 1 AOUT (power) "Output Pins. The outputs of the LTC1471 are switched between three operating states: OFF, 3.3V and 5V. These pins are protected against accidental short circuits to ground by SafeSlot current limit circuitry which protects (See Datasheet)", 2 A5VIN (power) "5V Input Supply Pins. The 5VIN supply pins serve two purposes. The first purpose is as the power supply input for the 5V NMOS switches. The second purpose is to provide power for the input, gate drive, and protection (See Datasheet)", 3 AEN1 (in) "Enable Inputs. The enable inputs are designed to interface directly with industry standard PCMCIA controllers and are high impedance CMOS gates with ESD protection diodes to ground, and should not be forced above 5VIN or (See Datasheet)", 4 AEN0 (in) "Enable Inputs. The enable inputs are designed to interface directly with industry standard PCMCIA controllers and are high impedance CMOS gates with ESD protection diodes to ground, and should not be forced above 5VIN or (See Datasheet)", 5 GND (power) "Ground Connections.", 6 B3VIN (power) "3V Input Supply Pins. The 3VIN supply pins serve as the power supply input for the 3.3V switches. These pins do not not provide any power to the internal control circuitry, and therefore, do not consume any power when (See Datasheet)", 7 B3VIN (power) "3V Input Supply Pins. The 3VIN supply pins serve as the power supply input for the 3.3V switches. These pins do not not provide any power to the internal control circuitry, and therefore, do not consume any power when (See Datasheet)", 8 BOUT (power) "Output Pins. The outputs of the LTC1471 are switched between three operating states: OFF, 3.3V and 5V. These pins are protected against accidental short circuits to ground by SafeSlot current limit circuitry which protects (See Datasheet)", 9 BOUT (power) "Output Pins. The outputs of the LTC1471 are switched between three operating states: OFF, 3.3V and 5V. These pins are protected against accidental short circuits to ground by SafeSlot current limit circuitry which protects (See Datasheet)", 10 B5VIN (power) "5V Input Supply Pins. The 5VIN supply pins serve two purposes. The first purpose is as the power supply input for the 5V NMOS switches. The second purpose is to provide power for the input, gate drive, and protection (See Datasheet)", 11 BEN1 (in) "Enable Inputs. The enable inputs are designed to interface directly with industry standard PCMCIA controllers and are high impedance CMOS gates with ESD protection diodes to ground, and should not be forced above 5VIN or (See Datasheet)", 12 BEN0 (in) "Enable Inputs. The enable inputs are designed to interface directly with industry standard PCMCIA controllers and are high impedance CMOS gates with ESD protection diodes to ground, and should not be forced above 5VIN or (See Datasheet)", 13 GND (power) "Ground Connections.", 14 A3VIN (power) "3V Input Supply Pins. The 3VIN supply pins serve as the power supply input for the 3.3V switches. These pins do not not provide any power to the internal control circuitry, and therefore, do not consume any power when (See Datasheet)", 15 A3VIN (power) "3V Input Supply Pins. The 3VIN supply pins serve as the power supply input for the 3.3V switches. These pins do not not provide any power to the internal control circuitry, and therefore, do not consume any power when (See Datasheet)", 16 AOUT (power) "Output Pins. The outputs of the LTC1471 are switched between three operating states: OFF, 3.3V and 5V. These pins are protected against accidental short circuits to ground by SafeSlot current limit circuitry which protects (See Datasheet)"

## LTC1471CS#TR
designator U?
Fully Integrated VCC Switch with SafeSlot Protection, 2.7 to 5.25 V Vin, 16-pin SOP (S-16), 0 to 70 degC, Tape and Reel; Manufacturer: Linear Technology; PartNumber: LTC1471CS#TR; DatasheetVersion: Rev. A; PackageVersion: Rev. G, 05/2012; PackageReference: S-16; PackageDescription: 16-Pin Plastic Small Outline, Body 9.9 x 3.9 mm, Pitch 1.27 mm; Supplier 1: Digi-Key; Supplier Part Number 1: LTC1471CS#TR-ND; Packing: Tape and Reel; RoHS: FALSE; Mounting Technology: Surface Mount; ComponentLink1Description: Manufacturer URL; ComponentLink1URL: http://www.linear.com/; ComponentLink2Description: Datasheet; ComponentLink2URL: http://cds.linear.com/docs/en/datasheet/14701fa.pdf; ComponentLink3Description: Package Specification; ComponentLink3URL: http://cds.linear.com/docs/en/packaging/S16%2005-08-1610%20Rev%20G.pdf
footprint LT-S-16_N (SOP, 16-Leads, Body 10x4mm, Pitch 1.27mm, IPC Medium Density)
footprint LT-S-16_L (SOP, 16-Leads, Body 10x4mm, Pitch 1.27mm, IPC High Density)
footprint LT-S-16_M (SOP, 16-Leads, Body 10x4mm, Pitch 1.27mm, IPC Low Density)
pins: 1 AOUT (power) "Output Pins. The outputs of the LTC1471 are switched between three operating states: OFF, 3.3V and 5V. These pins are protected against accidental short circuits to ground by SafeSlot current limit circuitry which protects (See Datasheet)", 2 A5VIN (power) "5V Input Supply Pins. The 5VIN supply pins serve two purposes. The first purpose is as the power supply input for the 5V NMOS switches. The second purpose is to provide power for the input, gate drive, and protection (See Datasheet)", 3 AEN1 (in) "Enable Inputs. The enable inputs are designed to interface directly with industry standard PCMCIA controllers and are high impedance CMOS gates with ESD protection diodes to ground, and should not be forced above 5VIN or (See Datasheet)", 4 AEN0 (in) "Enable Inputs. The enable inputs are designed to interface directly with industry standard PCMCIA controllers and are high impedance CMOS gates with ESD protection diodes to ground, and should not be forced above 5VIN or (See Datasheet)", 5 GND (power) "Ground Connections.", 6 B3VIN (power) "3V Input Supply Pins. The 3VIN supply pins serve as the power supply input for the 3.3V switches. These pins do not not provide any power to the internal control circuitry, and therefore, do not consume any power when (See Datasheet)", 7 B3VIN (power) "3V Input Supply Pins. The 3VIN supply pins serve as the power supply input for the 3.3V switches. These pins do not not provide any power to the internal control circuitry, and therefore, do not consume any power when (See Datasheet)", 8 BOUT (power) "Output Pins. The outputs of the LTC1471 are switched between three operating states: OFF, 3.3V and 5V. These pins are protected against accidental short circuits to ground by SafeSlot current limit circuitry which protects (See Datasheet)", 9 BOUT (power) "Output Pins. The outputs of the LTC1471 are switched between three operating states: OFF, 3.3V and 5V. These pins are protected against accidental short circuits to ground by SafeSlot current limit circuitry which protects (See Datasheet)", 10 B5VIN (power) "5V Input Supply Pins. The 5VIN supply pins serve two purposes. The first purpose is as the power supply input for the 5V NMOS switches. The second purpose is to provide power for the input, gate drive, and protection (See Datasheet)", 11 BEN1 (in) "Enable Inputs. The enable inputs are designed to interface directly with industry standard PCMCIA controllers and are high impedance CMOS gates with ESD protection diodes to ground, and should not be forced above 5VIN or (See Datasheet)", 12 BEN0 (in) "Enable Inputs. The enable inputs are designed to interface directly with industry standard PCMCIA controllers and are high impedance CMOS gates with ESD protection diodes to ground, and should not be forced above 5VIN or (See Datasheet)", 13 GND (power) "Ground Connections.", 14 A3VIN (power) "3V Input Supply Pins. The 3VIN supply pins serve as the power supply input for the 3.3V switches. These pins do not not provide any power to the internal control circuitry, and therefore, do not consume any power when (See Datasheet)", 15 A3VIN (power) "3V Input Supply Pins. The 3VIN supply pins serve as the power supply input for the 3.3V switches. These pins do not not provide any power to the internal control circuitry, and therefore, do not consume any power when (See Datasheet)", 16 AOUT (power) "Output Pins. The outputs of the LTC1471 are switched between three operating states: OFF, 3.3V and 5V. These pins are protected against accidental short circuits to ground by SafeSlot current limit circuitry which protects (See Datasheet)"